# EAGLE library part ADS1274 (library Texas Instruments)
Quad/Octal, Simultaneous Sampling, 24-Bit Analog-to-Digital Converters ADS1274 / ADS1278 Source: http://focus.ti.com/lit/ds/symlink/ads1274.pdf
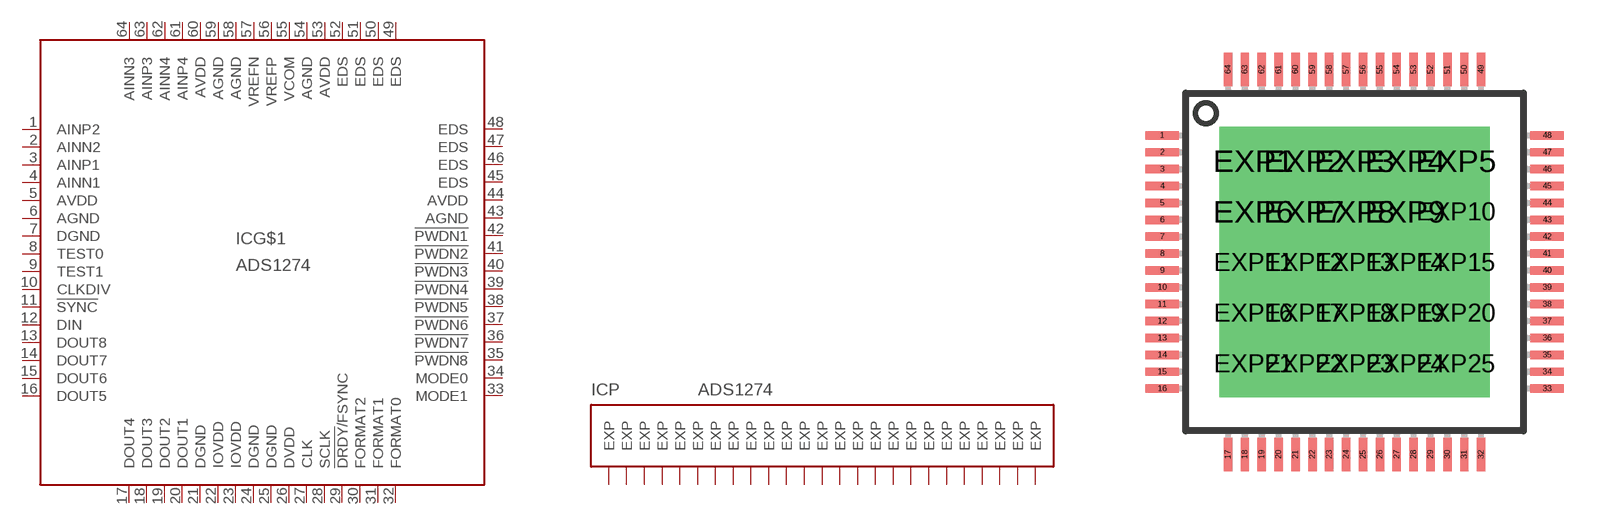
[diagram p76: symbol with the pads of HTQFP-64-PAP; footprint HTQFP-64-PAP]

Designator prefix IC; gates G$1=ADS1274 P=EXP25

## ADS1274 (MPN: ADS1274IPAPT; OC_FARNELL: 1603418; OC_NEWARK: 50M8809)  [HTQFP-64-PAP]
1  G$1:AINP2  in
2  G$1:AINN2  in
3  G$1:AINP1  in
4  G$1:AINN1  in
5  G$1:AVDD  pwr
6  G$1:AGND  pwr
7  G$1:DGND  pwr
8  G$1:TEST0  in
9  G$1:TEST1  in
10  G$1:CLKDIV  in
11  G$1:!SYNC  in
12  G$1:DIN  in
13  G$1:DOUT8  out
14  G$1:DOUT7  out
15  G$1:DOUT6  out
16  G$1:DOUT5  out
17  G$1:DOUT4  out
18  G$1:DOUT3  out
19  G$1:DOUT2  out
20  G$1:DOUT1  out
21  G$1:DGND  pwr
22  G$1:IOVDD  pwr
23  G$1:IOVDD  pwr
24  G$1:DGND  pwr
25  G$1:DGND  pwr
26  G$1:DVDD  pwr
27  G$1:CLK  in
28  G$1:SCLK
29  G$1:!DRDY!/FSYNC
30  G$1:FORMAT2  in
31  G$1:FORMAT1  in
32  G$1:FORMAT0  in
33  G$1:MODE1  in
34  G$1:MODE0  in
35  G$1:!PWDN8  in
36  G$1:!PWDN7  in
37  G$1:!PWDN6  in
38  G$1:!PWDN5  in
39  G$1:!PWDN4  in
40  G$1:!PWDN3  in
41  G$1:!PWDN2  in
42  G$1:!PWDN1  in
43  G$1:AGND  pwr
44  G$1:AVDD  pwr
45  G$1:EDS  in
46  G$1:EDS  in
47  G$1:EDS  in
48  G$1:EDS  in
49  G$1:EDS  in
50  G$1:EDS  in
51  G$1:EDS  in
52  G$1:EDS  in
53  G$1:AVDD  pwr
54  G$1:AGND  pwr
55  G$1:VCOM  out
56  G$1:VREFP  in
57  G$1:VREFN  in
58  G$1:AGND  pwr
59  G$1:AGND  pwr
60  G$1:AVDD  pwr
61  G$1:AINP4  in
62  G$1:AINN4  in
63  G$1:AINP3  in
64  G$1:AINN3  in
EXP1  P:EXP  pas
EXP2  P:EXP  pas
EXP3  P:EXP  pas
EXP4  P:EXP  pas
EXP5  P:EXP  pas
EXP6  P:EXP  pas
EXP7  P:EXP  pas
EXP8  P:EXP  pas
EXP9  P:EXP  pas
EXP10  P:EXP  pas
EXP11  P:EXP  pas
EXP12  P:EXP  pas
EXP13  P:EXP  pas
EXP14  P:EXP  pas
EXP15  P:EXP  pas
EXP16  P:EXP  pas
EXP17  P:EXP  pas
EXP18  P:EXP  pas
EXP19  P:EXP  pas
EXP20  P:EXP  pas
EXP21  P:EXP  pas
EXP22  P:EXP  pas
EXP23  P:EXP  pas
EXP24  P:EXP  pas
EXP25  P:EXP  pas

## Footprint HTQFP-64-PAP (pad centres in mm)
PAP (S-PQFP-G46) PowerPAD Package Source: http://focus.ti.com/lit/ds/symlink/ads1274.pdf www.ti.com .. slma002.pdf
smd 1 x 0.25: 1 -5.7,3.75; 2 -5.7,3.25; 3 -5.7,2.75; 4 -5.7,2.25; 5 -5.7,1.75; 6 -5.7,1.25; 7 -5.7,0.75; 8 -5.7,0.25; 9 -5.7,-0.25; 10 -5.7,-0.75; 11 -5.7,-1.25; 12 -5.7,-1.75; 13 -5.7,-2.25; 14 -5.7,-2.75; 15 -5.7,-3.25; 16 -5.7,-3.75; 33 5.7,-3.75; 34 5.7,-3.25; 35 5.7,-2.75; 36 5.7,-2.25; 37 5.7,-1.75; 38 5.7,-1.25; 39 5.7,-0.75; 40 5.7,-0.25; 41 5.7,0.25; 42 5.7,0.75; 43 5.7,1.25; 44 5.7,1.75; 45 5.7,2.25; 46 5.7,2.75; 47 5.7,3.25; 48 5.7,3.75
smd 0.25 x 1: 17 -3.75,-5.7; 18 -3.25,-5.7; 19 -2.75,-5.7; 20 -2.25,-5.7; 21 -1.75,-5.7; 22 -1.25,-5.7; 23 -0.75,-5.7; 24 -0.25,-5.7; 25 0.25,-5.7; 26 0.75,-5.7; 27 1.25,-5.7; 28 1.75,-5.7; 29 2.25,-5.7; 30 2.75,-5.7; 31 3.25,-5.7; 32 3.75,-5.7; 49 3.75,5.7; 50 3.25,5.7; 51 2.75,5.7; 52 2.25,5.7; 53 1.75,5.7; 54 1.25,5.7; 55 0.75,5.7; 56 0.25,5.7; 57 -0.25,5.7; 58 -0.75,5.7; 59 -1.25,5.7; 60 -1.75,5.7; 61 -2.25,5.7; 62 -2.75,5.7; 63 -3.25,5.7; 64 -3.75,5.7
drill 0.3 pad 2 square: EXP1 -3,3; EXP2 -1.5,3; EXP3 0,3; EXP4 1.5,3; EXP5 3,3; EXP6 -3,1.5; EXP7 -1.5,1.5; EXP8 0,1.5; EXP9 1.5,1.5; EXP10 3,1.5; EXP11 -3,0; EXP12 -1.5,0; EXP13 0,0; EXP14 1.5,0; EXP15 3,0; EXP16 -3,-1.5; EXP17 -1.5,-1.5; EXP18 0,-1.5; EXP19 1.5,-1.5; EXP20 3,-1.5; EXP21 -3,-3; EXP22 -1.5,-3; EXP23 0,-3; EXP24 1.5,-3; EXP25 3,-3